# Altium footprint library IRLL2705TRPBF.PcbLib: 1 footprints
Each footprint in its own frame and in the unit in brackets; x right, y up, seen from the top. Pads: shape width x height; smd on the part's side, far side on the other; paste and mask are expansions set on the pad; w line width, h text height; cw(c..) or ccw(c..) is an arc to the next point about the centre after c.
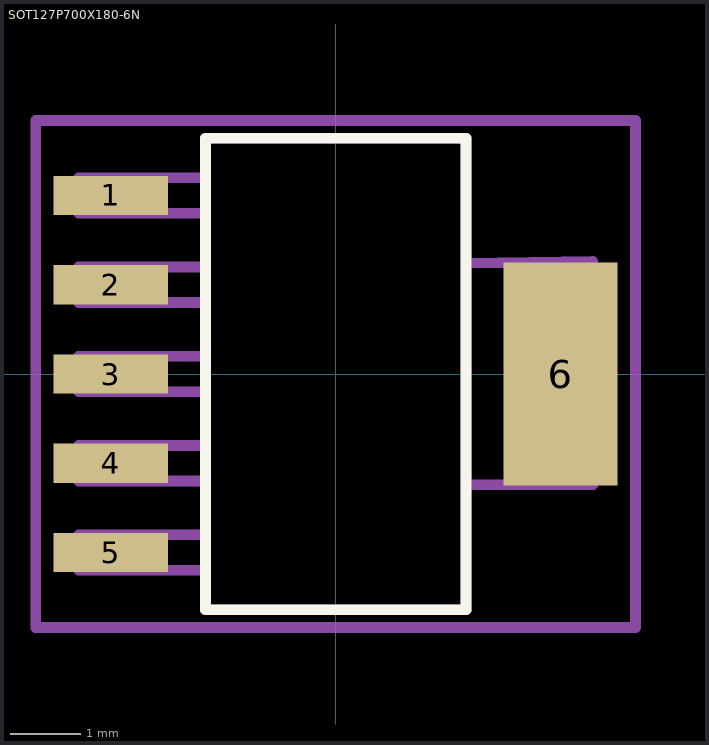
[diagram p0: the footprint, top view; thin cyan lines are the x and y axes]

## SOT127P700X180-6N [mil]
pads (6):
  rect 64x22 smd: 1(-126,100) 2(-126,50) 3(-126,0) 4(-126,-50) 5(-126,-100)
  rect 64x125 smd: 6(126,0)
Top Overlay:
  lines w6: -73,-132 -73,132 73,132 73,-132 -73,-132
Mechanical 13:
  lines w6: -144,-110 -73,-110 -73,-90 -144,-90 -144,-110 ; -144,-60 -73,-60 -73,-40 -144,-40 -144,-60 ; -144,-10 -73,-10 -73,10 -144,10 -144,-10 ; -144,40 -73,40 -73,60 -144,60 -144,40 ; -144,90 -73,90 -73,110 -144,110 -144,90 ; -73,-132 -73,132 73,132 73,-132 -73,-132 ; 73,-62 144,-62 144,63 73,62 73,-62
Mechanical 15:
  lines w6: -168,-142 -168,142 168,142 168,-142 -168,-142